# Altium schematic symbol library Other.SchLib: 179 symbols (part 2 of 11)
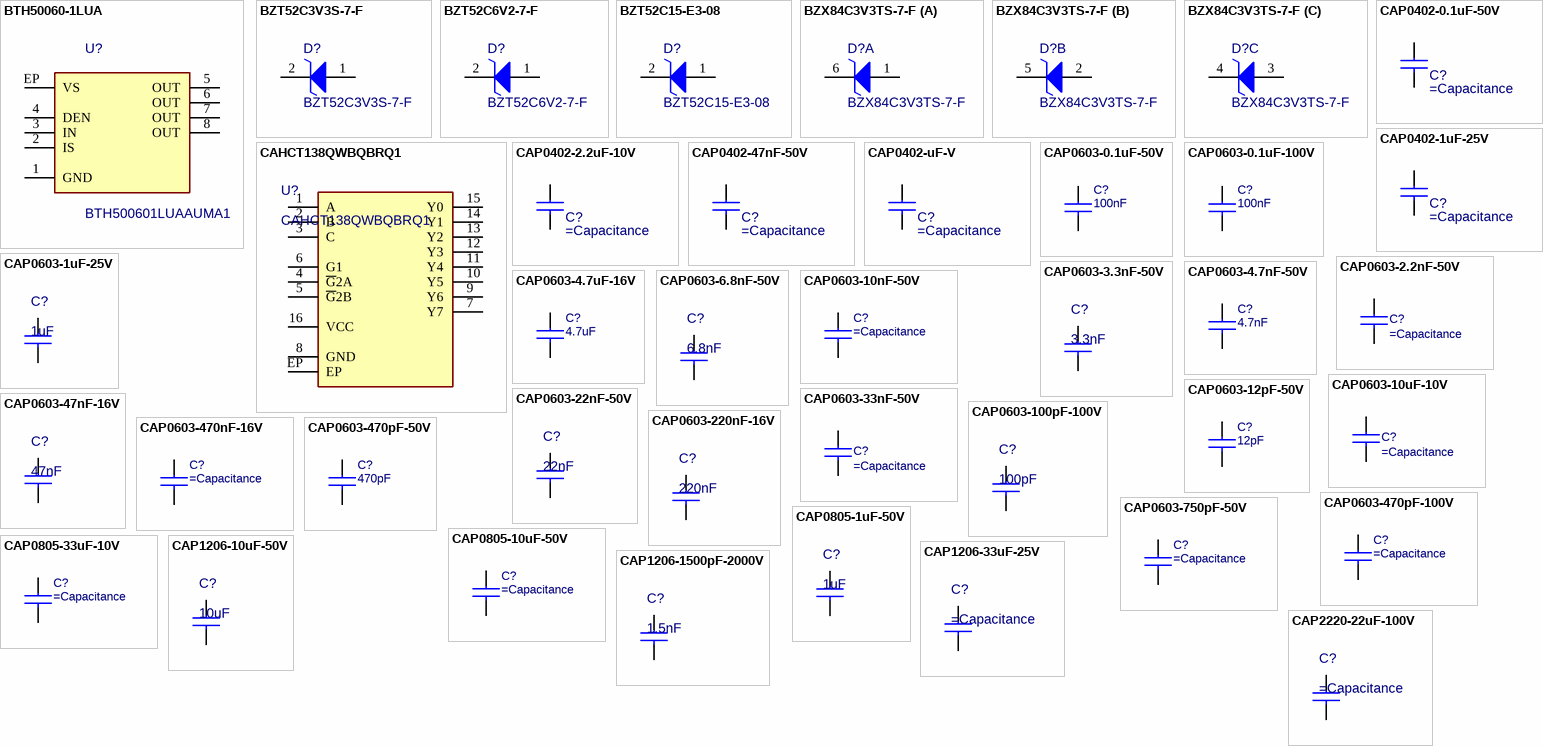
[diagram p9: symbols BTH50060-1LUA to CAP2220-22uF-100V]

## BZT52C6V2-7-F
designator D?
DIODE ZENER 6.2V 500MW SOD123; Manufacturer: Diodes Inc.; Element Configuration: Single; ESD Protection: No; Forward Current: 10mA; Forward Voltage: 900mV; Impedance: 10Ω; Max Junction Temperature (Tj): 150°C; Max Power Dissipation: 370mW; Max Reverse Leakage Current: 3µA; Number of Elements: 1; Output Current: 40mA; Polarity: Unidirectional; Reverse Standoff Voltage: 4V; Test Current: 5mA; Tolerance: 6%; Voltage Tolerance: 6.45%; Supplier: DigiKey; Supplier Part Number: BZT52C6V2-FDICT-ND; Manufacturer Part Number: BZT52C6V2-7-F; RoHS: Compliant; Category: Zener Diodes; Stock: 127496; Pricing: 1=0,12, 10=0,085, 100=0,041, 500=0,04, 1000=0,039 (USD); China RoHS: Compliant; Contact Plating: Tin; Height: 1.45mm; Lead Free: Lead Free; Length: 2.85mm; Lifecycle Status: Production; Max Operating Temperature: 150°C; Min Operating Temperature: -65°C; Mounting Technology: Surface Mount; Pins: 2; Number of Terminals: 2; Packaging: Cut Tape; Peak Reverse Current: 3µA; Power Dissipation: 370mW; Power Rating: 500mW; Radiation Hardening: No; REACH SVHC: Yes; Reference Voltage: 6.2V; Reverse Voltage: 4V; Schedule B: 8541100050, 8541100050|8541100050|8541100050|8541100050|8541100050|8541100050|8541100050|8541100050|8541100050|8541100050|8541100050|8541100050|8541100050|8541100050|8541100050|8541100050|8541100050|8541100050|8541100050|8541100050|8541100050|8541100050, 8541100050|8541100050|8541100050|8541100050|8541100050|8541100050|8541100050|8541100050|8541100050|8541100050|8541100050|8541100050|8541100050|8541100050|8541100050|8541100050|8541100050|8541100050|8541100050|8541100050|8541100050|8541100050|8541100050, 8541100050|8541100050|8541100050|8541100050|8541100050|8541100050|8541100050|8541100050|8541100050|8541100050|8541100050|8541100050|8541100050|8541100050|8541100050|8541100050|8541100050|8541100050|8541100050|8541100050|8541100050|8541100050|8541100050|85; Termination: SMD/SMT; Voltage Rating (DC): 6.2V; Weight: 10.007382mg; Width: 1.7mm; Working Voltage: 6.2V; Zener Current: 5mA; Zener Voltage: 6.2V; ComponentLink1URL: https://datasheet.octopart.com:443/BZT52C6V2-7-F-Diodes-Inc.-datasheet-101585693.pdf?src-supplier=IHS; ComponentLink1Description: https://datasheet.octopart.com:443/BZT52C6V2-7-F-Diodes-Inc.-datasheet-101585693.pdf?src-supplier=IHS; ComponentLink2URL: https://sigma.octopart.com:443/138895985/technical_drawing/Diodes-Inc.-BZT52C6V2-7-F.pdf?src-supplier=Diodes+Inc+SCT; ComponentLink2Description: https://sigma.octopart.com:443/138895985/technical_drawing/Diodes-Inc.-BZT52C6V2-7-F.pdf?src-supplier=Diodes+Inc+SCT; ComponentLink3URL: https://datasheet.octopart.com:443/BZT52C6V2-7-F-Diodes-Inc.-datasheet-12513818.pdf?src-supplier=TME; ComponentLink3Description: https://datasheet.octopart.com:443/BZT52C6V2-7-F-Diodes-Inc.-datasheet-12513818.pdf?src-supplier=TME; ComponentLink4URL: https://datasheet.octopart.com/BZT52C6V2-7-F-Diodes-Inc.-datasheet-10839781.pdf; ComponentLink4Description: https://datasheet.octopart.com/BZT52C6V2-7-F-Diodes-Inc.-datasheet-10839781.pdf; ComponentLink5URL: https://datasheet.octopart.com/BZT52C6V2-7-F-Diodes-Inc.-datasheet-10941054.pdf; ComponentLink5Description: https://datasheet.octopart.com/BZT52C6V2-7-F-Diodes-Inc.-datasheet-10941054.pdf; ComponentLink6URL: https://datasheet.octopart.com/BZT52C6V2-7-F-Diodes-Inc.-datasheet-10405015.pdf; ComponentLink6Description: https://datasheet.octopart.com/BZT52C6V2-7-F-Diodes-Inc.-datasheet-10405015.pdf; ComponentLink7URL: https://datasheet.octopart.com/BZT52C6V2-7-F-Diodes-Inc.-datasheet-5318325.pdf; ComponentLink7Description: https://datasheet.octopart.com/BZT52C6V2-7-F-Diodes-Inc.-datasheet-5318325.pdf; ComponentLink8URL: https://datasheet.octopart.com:443/BZT52C6V2-7-F-Diodes-Inc.-datasheet-14050928.pdf?src-supplier=iiiC; ComponentLink8Description: https://datasheet.octopart.com:443/BZT52C6V2-7-F-Diodes-Inc.-datasheet-14050928.pdf?src-supplier=iiiC; ComponentLink9URL: https://datasheet.octopart.com:443/BZT52C6V2-7-F-Diodes-Inc.-datasheet-123517.pdf?src-supplier=DigiKey; ComponentLink9Description: https://datasheet.octopart.com:443/BZT52C6V2-7-F-Diodes-Inc.-datasheet-123517.pdf?src-supplier=DigiKey; ComponentLink10URL: https://datasheet.octopart.com:443/BZT52C6V2-7-F-Diodes-Inc.-datasheet-1309.pdf?src-supplier=Mouser; ComponentLink10Description: https://datasheet.octopart.com:443/BZT52C6V2-7-F-Diodes-Inc.-datasheet-1309.pdf?src-supplier=Mouser; ComponentLink11URL: http://sigma.octopart.com:80/15616906/materials_sheet/Diodes-Inc.-BZT52C6V2-7-F.pdf?src-supplier=Compliance+Statements; ComponentLink11Description: http://sigma.octopart.com:80/15616906/materials_sheet/Diodes-Inc.-BZT52C6V2-7-F.pdf?src-supplier=Compliance+Statements; Supplier 1: DigiKey; Supplier Part Number 1: BZT52C6V2-FDICT-ND
footprint SOD-123 (SOD, 2-Leads, Body 2.69x1.6mm)
pins: 1, 2

## BZT52C15-E3-08
designator D?
DIODE ZENER 15V 410MW SOD123; Manufacturer: Vishay; Supplier: Digikey; Supplier Part Number: BZT52C15-E3-08GICT-ND; Manufacturer Part Number: BZT52C15-E3-08; RoHS: Yes; Category: Zener Diodes; Stock: 18922; Pricing: 1=0,15, 10=0,104, 100=0,047, 500=0,0465, 1000=0,046 (USD); ComponentLink1URL: http://www.mouser.com/ds/2/427/bzt52-106265.pdf?src-supplier=Mouser; ComponentLink1Description: http://www.mouser.com/ds/2/427/bzt52-106265.pdf?src-supplier=Mouser; ComponentLink2URL: http://www.farnell.com/datasheets/2046168.pdf?src-supplier=Farnell; ComponentLink2Description: http://www.farnell.com/datasheets/2046168.pdf?src-supplier=Farnell; ComponentLink3URL: http://www.vishay.com/docs/85760/bzt52.pdf?src-supplier=Digikey; ComponentLink3Description: http://www.vishay.com/docs/85760/bzt52.pdf?src-supplier=Digikey; ComponentLink4URL: https://www.vishay.com/docs/85760/bzt52.pdf?src-supplier=Digikey; ComponentLink4Description: https://www.vishay.com/docs/85760/bzt52.pdf?src-supplier=Digikey; ComponentLink5URL: http://www.vishay.com/docs/85760/bzt52.pdf?src-supplier=Avnet; ComponentLink5Description: http://www.vishay.com/docs/85760/bzt52.pdf?src-supplier=Avnet; ComponentLink6URL: http://www.farnell.com/datasheets/2046168.pdf?src-supplier=Element14; ComponentLink6Description: http://www.farnell.com/datasheets/2046168.pdf?src-supplier=Element14; ComponentLink7URL: https://datasheet.octopart.com/BZT52C15-E3-08-Vishay-datasheet-32036674.pdf?src-supplier=Newark; ComponentLink7Description: https://datasheet.octopart.com/BZT52C15-E3-08-Vishay-datasheet-32036674.pdf?src-supplier=Newark; ComponentLink8URL: http://www.farnell.com/datasheets/1852933.pdf?src-supplier=Newark; ComponentLink8Description: http://www.farnell.com/datasheets/1852933.pdf?src-supplier=Newark; Supplier 1: Digikey; Supplier Part Number 1: BZT52C15-E3-08GICT-ND
footprint SOD-123 (SOD, 2-Leads, Body 2.69x1.6mm)
pins: 1, 2

## BZX84C3V3TS-7-F
designator D?
DIODE ZENER ARRAY 3.3V SOT-363; Manufacturer: Diodes Inc.; ESD Protection: No; Forward Voltage: 900mV; Impedance: 95Ω; Max Power Dissipation: 200mW; Max Reverse Leakage Current: 5µA; Number of Elements: 3; Polarity: Unidirectional; Reverse Standoff Voltage: 1V; Test Current: 5mA; Tolerance: 6%; Voltage Tolerance: 6.06%; Supplier 1: DigiKey; Supplier Part Number 1: 31-BZX84C3V3TS-7-FCT-ND; Supplier: DigiKey; Supplier Part Number: 31-BZX84C3V3TS-7-FCT-ND; Manufacturer Part Number: BZX84C3V3TS-7-F; RoHS: Compliant; Category: Zener Diodes; Stock: 2827; Pricing: 1=0,31, 10=0,213, 100=0,099 (USD); Case/Package: SOT-363; China RoHS: Compliant; Contact Plating: Tin; Height: 1mm; Length: 2.2mm; Lifecycle Status: Production; Max Operating Temperature: 150°C; Min Operating Temperature: -65°C; Mounting Technology: Surface Mount; Pins: 6; Number of Terminals: 6; Packaging: Tape & Reel; Peak Reverse Current: 5µA; Power Dissipation: 200mW; Power Rating: 200mW; REACH SVHC: Yes; Reference Voltage: 3.3V; Weight: 6.010099mg; Width: 2.2mm; Zener Current: 5mA; Zener Voltage: 3.3V; ComponentLink1URL: https://datasheet.octopart.com:443/BZX84C3V3TS-7-F-Diodes-Inc.-datasheet-160640132.pdf?src-supplier=IHS; ComponentLink1Description: https://datasheet.octopart.com:443/BZX84C3V3TS-7-F-Diodes-Inc.-datasheet-160640132.pdf?src-supplier=IHS; ComponentLink2URL: https://datasheet.octopart.com:443/BZX84C3V3TS-7-F-Diodes-Inc.-datasheet-11551317.pdf?src-supplier=Diodes+Inc+SCT; ComponentLink2Description: https://datasheet.octopart.com:443/BZX84C3V3TS-7-F-Diodes-Inc.-datasheet-11551317.pdf?src-supplier=Diodes+Inc+SCT; ComponentLink3URL: https://sigma.octopart.com:443/138865995/technical_drawing/Diodes-Inc.-BZX84C3V3TS-7-F.pdf?src-supplier=Diodes+Inc+SCT; ComponentLink3Description: https://sigma.octopart.com:443/138865995/technical_drawing/Diodes-Inc.-BZX84C3V3TS-7-F.pdf?src-supplier=Diodes+Inc+SCT; ComponentLink4URL: http://sigma.octopart.com:80/15616913/materials_sheet/Diodes-Inc.-BZX84C3V3TS-7-F.pdf?src-supplier=Compliance+Statements; ComponentLink4Description: http://sigma.octopart.com:80/15616913/materials_sheet/Diodes-Inc.-BZX84C3V3TS-7-F.pdf?src-supplier=Compliance+Statements
footprint SOT-363 (6 pin, 2x2.1mm)
part A pins: 1 A1, 6 C1
part B pins: 2 A2, 5 C2
part C pins: 3 A3, 4 C3

## CAHCT138QWBQBRQ1
designator U?
IC DECODER/DEMUX 1 X 3:8 16-WQFN; Manufacturer: Texas Instruments; Manufacturer Lifecycle Status: ACTIVE; Supplier: DigiKey; Supplier Part Number: 296-CAHCT138QWBQBRQ1CT-ND; Manufacturer Part Number: CAHCT138QWBQBRQ1; RoHS: Compliant; Category: Integrated Circuits (ICs); Stock: 3000; Pricing: 1=0,69, 10=0,487, 25=0,4376, 100=0,3825, 250=0,35636, 500=0,34058, 1000=0,33507 (USD); Height: 800µm; Length: 3.5mm; Lifecycle Status: Production; Pins: 16; Thickness: 750µm; Width: 2.5mm; ComponentLink1URL: https://octopart.com:443/opatz8j6/c1?t=r6BgkDD2WvoZYG5zPlB5wptxFH1z3sMkWAPi6IDko2PPEjSprLkwyQ4igQPYPFzfGptLnWxKtMcIaCqGgOl4BgX5viiyAP9gIO-2FsIDF_F20-XqV5MqDYnQg0ZA-Ez0fKtFFSRjvUNH6ZkhuLtDXSiLnU1KOJa2uVgXvkRYmS_8bYr_2UeHUU2Ois_2qoP4CquEYZXzafViAlsb4iAhbViNC3nDIavQt9RHiwqb8esSdwmFnfSP1bWyWEgRkTtuPX5uAVDRKX79969s8VjnJE7Gy2dejHqTRMZDFGPeJ9QXpCSTi5jST_yXKOAbofRGJKOkP2d-a-zfoggpYesXviIOd-Zn-aSlwCIVhHEclKGalV1a1nYA4levSNwJTnUFHK1Fkb3yB3BHGlNEmlU&src-supplier=Texas+Instruments; ComponentLink1Description: https://octopart.com:443/opatz8j6/c1?t=r6BgkDD2WvoZYG5zPlB5wptxFH1z3sMkWAPi6IDko2PPEjSprLkwyQ4igQPYPFzfGptLnWxKtMcIaCqGgOl4BgX5viiyAP9gIO-2FsIDF_F20-XqV5MqDYnQg0ZA-Ez0fKtFFSRjvUNH6ZkhuLtDXSiLnU1KOJa2uVgXvkRYmS_8bYr_2UeHUU2Ois_2qoP4CquEYZXzafViAlsb4iAhbViNC3nDIavQt9RHiwqb8esSdwmFnfSP1bWyWEgRkTtuPX5uAVDRKX79969s8VjnJE7Gy2dejHqTRMZDFGPeJ9QXpCSTi5jST_yXKOAbofRGJKOkP2d-a-zfoggpYesXviIOd-Zn-aSlwCIVhHEclKGalV1a1nYA4levSNwJTnUFHK1Fkb3yB3BHGlNEmlU&src-supplier=Texas+Instruments; ComponentLink2URL: http://sigma.octopart.com:80/conflict_mineral_statement/Texas-Instruments-company-63.pdf?src-supplier=Compliance+Statements; ComponentLink2Description: http://sigma.octopart.com:80/conflict_mineral_statement/Texas-Instruments-company-63.pdf?src-supplier=Compliance+Statements; ComponentLink3URL: http://sigma.octopart.com:80/reach_statement/Texas-Instruments-company-64.pdf?src-supplier=Compliance+Statements; ComponentLink3Description: http://sigma.octopart.com:80/reach_statement/Texas-Instruments-company-64.pdf?src-supplier=Compliance+Statements; Supplier 1: DigiKey; Supplier Part Number 1: 296-CAHCT138QWBQBRQ1CT-ND
footprint WQFN-16 (WQFN - 3.5x0.5mm)
pins: 1 A, 2 B, 3 C, 4 ~{G}2A, 5 ~{G}2B, 6 G1, 7 Y7, 8 GND, 9 Y6, 10 Y5, 11 Y4, 12 Y3, 13 Y2, 14 Y1, 15 Y0, 16 VCC, EP

## CAP0402-0.1uF-50V
designator C?
CAP CER 0.1UF 50V X7R 0402; Manufacturer: Walsin Technologies; Manufacturer Part Number: 0402B104K500CT; Capacitance: 100nF; Material: 4241ConductorMaterial; Value: 100nF; Tolerance: 10%; Dielectric: 1511DielectricType; Supplier: Digikey; Supplier Part Number: 1292-1176-1-ND; RoHS: Yes; Category: Ceramic Capacitors; Stock: 109567; Pricing: 1=0,08, 10=0,005, 100=0,0032, 1000=0,0024 (USD); Mounting Technology: Surface Mount; Case/Package: 0402; Case Code (Imperial): 0402; Case Code (Metric): 1005; Min Operating Temperature: -55°C; Max Operating Temperature: 125°C; Packaging: Cut Tape; Voltage Rating: 50V; Series: -; Voltage Rating (DC): 50V; Height: 550um; RoHS Compliant: Yes; Lead Free: 5697LeadFree; ComponentLink1URL: http://datasheet.octopart.com/0402B104K500CT-Walsin-Technologies-datasheet-26371553.pdf?src-supplier=Arrow+Electronics; ComponentLink1Description: http://datasheet.octopart.com/0402B104K500CT-Walsin-Technologies-datasheet-26371553.pdf?src-supplier=Arrow+Electronics; ComponentLink2URL: http://datasheet.octopart.com/0402B104K500CT-Walsin-Technologies-datasheet-26371553.pdf?src-supplier=Verical; ComponentLink2Description: http://datasheet.octopart.com/0402B104K500CT-Walsin-Technologies-datasheet-26371553.pdf?src-supplier=Verical; ComponentLink3URL: http://www.passivecomponent.com/indexsea/0402B104K500CT-IE.pdf?src-supplier=Digikey; ComponentLink3Description: http://www.passivecomponent.com/indexsea/0402B104K500CT-IE.pdf?src-supplier=Digikey; ComponentLink4URL: http://datasheet.octopart.com/0402B104K500CT-Walsin-Technologies-datasheet-26371553.pdf?src-supplier=Rs; ComponentLink4Description: http://datasheet.octopart.com/0402B104K500CT-Walsin-Technologies-datasheet-26371553.pdf?src-supplier=Rs; ComponentLink5URL: https://datasheet.octopart.com/0402B104K500CT-Walsin-Technologies-datasheet-128065749.pdf?src-supplier=Future+Electronics; ComponentLink5Description: https://datasheet.octopart.com/0402B104K500CT-Walsin-Technologies-datasheet-128065749.pdf?src-supplier=Future+Electronics; ComponentLink6URL: http://datasheet.octopart.com/0402B104K500CT-Walsin-Technologies-datasheet-26371553.pdf?src-supplier=Farnell; ComponentLink6Description: http://datasheet.octopart.com/0402B104K500CT-Walsin-Technologies-datasheet-26371553.pdf?src-supplier=Farnell; ComponentLink7URL: http://datasheet.octopart.com/0402B104K500CT-Walsin-Technologies-datasheet-26371553.pdf?src-supplier=Newark; ComponentLink7Description: http://datasheet.octopart.com/0402B104K500CT-Walsin-Technologies-datasheet-26371553.pdf?src-supplier=Newark; ComponentLink8URL: http://datasheet.octopart.com/0402B104K500CT-Walsin-Technologies-datasheet-26371553.pdf?src-supplier=Mouser; ComponentLink8Description: http://datasheet.octopart.com/0402B104K500CT-Walsin-Technologies-datasheet-26371553.pdf?src-supplier=Mouser; ComponentLink9URL: http://datasheet.octopart.com/0402B104K500CT-Walsin-Technologies-datasheet-26371553.pdf?src-supplier=Digikey; ComponentLink9Description: http://datasheet.octopart.com/0402B104K500CT-Walsin-Technologies-datasheet-26371553.pdf?src-supplier=Digikey; ComponentLink10URL: https://datasheet.octopart.com/0402B104K500CT-Walsin-Technologies-datasheet-62066062.pdf?src-supplier=TME; ComponentLink10Description: https://datasheet.octopart.com/0402B104K500CT-Walsin-Technologies-datasheet-62066062.pdf?src-supplier=TME; ComponentLink11URL: http://datasheet.octopart.com/0402B104K500CT-Walsin-Technologies-datasheet-26371553.pdf?src-supplier=Freelance+Electronics; ComponentLink11Description: http://datasheet.octopart.com/0402B104K500CT-Walsin-Technologies-datasheet-26371553.pdf?src-supplier=Freelance+Electronics; ComponentLink12URL: http://datasheet.octopart.com/0402B104K500CT-Walsin-Technologies-datasheet-26371553.pdf?src-supplier=Component+Sense; ComponentLink12Description: http://datasheet.octopart.com/0402B104K500CT-Walsin-Technologies-datasheet-26371553.pdf?src-supplier=Component+Sense; ComponentLink13URL: http://datasheet.octopart.com/0402B104K500CT-Walsin-Technologies-datasheet-26371553.pdf?src-supplier=NAC+Semi; ComponentLink13Description: http://datasheet.octopart.com/0402B104K500CT-Walsin-Technologies-datasheet-26371553.pdf?src-supplier=NAC+Semi; ComponentLink14URL: https://datasheet.octopart.com/0402B104K500CT-Walsin-Technologies-datasheet-136037192.pdf?src-supplier=TECHDesign; ComponentLink14Description: https://datasheet.octopart.com/0402B104K500CT-Walsin-Technologies-datasheet-136037192.pdf?src-supplier=TECHDesign; Supplier 1: Digikey; Supplier Part Number 1: 1292-1176-1-ND
footprint C0402 (Chip Capacitor, 2-Leads, Body 1.00x0.50mm, IPC Medium Density)
pins: 1, 2

## CAP0402-1uF-25V
designator C?
Multilayer Ceramic Capacitors MLCC - SMD/SMT 0402 1uF 25volts *Derate Voltage/Temp; Manufacturer: Murata; Manufacturer Part Number: GRM155C81E105KE11J; Manufacturer Lifecycle Status: IN PRODUCTION; Capacitance: 1µF; Value: 1µF; Dielectric: X6S; Tolerance: 10%; Voltage Rating: 25V; Supplier 1: DigiKey; Supplier Part Number 1: 490-GRM155C81E105KE11JCT-ND; Supplier: DigiKey; Supplier Part Number: 490-GRM155C81E105KE11JCT-ND; RoHS: Compliant; Category: Ceramic Capacitors; Stock: 78531; Pricing: 1=0,1, 10=0,043, 50=0,0294, 100=0,0253, 500=0,01832, 1000=0,01619, 2500=0,01394, 5000=0,01258 (USD); Case/Package: 0402; Case Code (Imperial): 0402; Case Code (Metric): 1005; Dielectric Material: Ceramic; Height: 500µm; Length: 1mm; Lifecycle Status: Production; Material: Ceramic; Max Operating Temperature: 105°C; Min Operating Temperature: -55°C; Mounting Technology: Surface Mount; Number of Terminals: 2; Packaging: Tape & Reel (TR); REACH SVHC: Yes; Termination: SMD/SMT; Thickness: 500µm; Voltage Rating (DC): 25V; Weight: 6.010099mg; Width: 500µm; ComponentLink1URL: https://datasheet.octopart.com:443/GRM155C81E105KE11J-Murata-datasheet-165579666.pdf?src-supplier=TME; ComponentLink1Description: https://datasheet.octopart.com:443/GRM155C81E105KE11J-Murata-datasheet-165579666.pdf?src-supplier=TME; ComponentLink2URL: https://datasheet.octopart.com:443/GRM155C81E105KE11J-Murata-datasheet-141266224.pdf?src-supplier=Ciiva; ComponentLink2Description: https://datasheet.octopart.com:443/GRM155C81E105KE11J-Murata-datasheet-141266224.pdf?src-supplier=Ciiva; ComponentLink3URL: https://datasheet.octopart.com:443/GRM155C81E105KE11J-Murata-datasheet-140688500.pdf?src-supplier=Ciiva; ComponentLink3Description: https://datasheet.octopart.com:443/GRM155C81E105KE11J-Murata-datasheet-140688500.pdf?src-supplier=Ciiva; ComponentLink4URL: https://datasheet.octopart.com:443/GRM155C81E105KE11J-Murata-datasheet-138740527.pdf?src-supplier=Ciiva; ComponentLink4Description: https://datasheet.octopart.com:443/GRM155C81E105KE11J-Murata-datasheet-138740527.pdf?src-supplier=Ciiva; ComponentLink5URL: https://datasheet.octopart.com:443/GRM155C81E105KE11J-Murata-datasheet-149522958.pdf?src-supplier=Farnell; ComponentLink5Description: https://datasheet.octopart.com:443/GRM155C81E105KE11J-Murata-datasheet-149522958.pdf?src-supplier=Farnell; ComponentLink6URL: https://datasheet.octopart.com/GRM155C81E105KE11J-Murata-datasheet-12515295.pdf; ComponentLink6Description: https://datasheet.octopart.com/GRM155C81E105KE11J-Murata-datasheet-12515295.pdf; ComponentLink7URL: https://datasheet.octopart.com/GRM155C81E105KE11J-Murata-datasheet-12510076.pdf; ComponentLink7Description: https://datasheet.octopart.com/GRM155C81E105KE11J-Murata-datasheet-12510076.pdf; ComponentLink8URL: https://datasheet.octopart.com/GRM155C81E105KE11J-Murata-datasheet-11978611.pdf; ComponentLink8Description: https://datasheet.octopart.com/GRM155C81E105KE11J-Murata-datasheet-11978611.pdf; ComponentLink9URL: https://datasheet.octopart.com/GRM155C81E105KE11J-Murata-datasheet-10025737.pdf; ComponentLink9Description: https://datasheet.octopart.com/GRM155C81E105KE11J-Murata-datasheet-10025737.pdf; ComponentLink10URL: https://datasheet.octopart.com/GRM155C81E105KE11J-Murata-datasheet-8819587.pdf; ComponentLink10Description: https://datasheet.octopart.com/GRM155C81E105KE11J-Murata-datasheet-8819587.pdf; ComponentLink11URL: https://datasheet.octopart.com/GRM155C81E105KE11J-Murata-datasheet-38882740.pdf; ComponentLink11Description: https://datasheet.octopart.com/GRM155C81E105KE11J-Murata-datasheet-38882740.pdf; ComponentLink12URL: http://sigma.octopart.com:80/reach_statement/Murata-company-16.pdf?src-supplier=Compliance+Statements; ComponentLink12Description: http://sigma.octopart.com:80/reach_statement/Murata-company-16.pdf?src-supplier=Compliance+Statements
footprint C0402 (Chip Capacitor, 2-Leads, Body 1.00x0.50mm, IPC Medium Density)
pins: 1, 2

## CAP0402-2.2uF-10V
designator C?
Ceramic Capacitor, Ceramic, 16V, 20% +Tol, 20% -Tol, X5R, 15% TC, 2.2uF, Surface Mount, 0402; Manufacturer: Yageo Group; Manufacturer Part Number: CC0402MRX5R7BB225; Capacitance: 2.2µF; Value: 2.2µF; Temperature Coefficient: 30ppm/°C; Supplier 1: DigiKey; Supplier Part Number 1: 311-3481-1-ND; Supplier: DigiKey; Supplier Part Number: 311-3481-1-ND; RoHS: Compliant; Category: Ceramic Capacitors; Stock: 818; Pricing: 1=0,15, 10=0,086, 50=0,0604, 100=0,0525, 500=0,03696, 1000=0,03522, 2500=0,03125, 5000=0,02892 (USD); Case/Package: 0402; China RoHS: Compliant; Dielectric: X5R; Dielectric Material: Ceramic; Halogen Free: Halogen Free; Height: 500µm; Lead Free: Lead Free; Length: 1mm; Lifecycle Status: Production; Material: Ceramic; Max Operating Temperature: 85°C; Min Operating Temperature: -55°C; Mounting Technology: Surface Mount; Number of Terminals: 2; REACH SVHC: Yes; Voltage Rating: 16V; Voltage Rating (DC): 16V; Width: 500µm; ComponentLink1URL: https://datasheet.octopart.com:443/CC0402MRX5R7BB225-Yageo-datasheet-170350636.pdf?src-supplier=IHS; ComponentLink1Description: https://datasheet.octopart.com:443/CC0402MRX5R7BB225-Yageo-datasheet-170350636.pdf?src-supplier=IHS; ComponentLink2URL: https://datasheet.octopart.com:443/CC0402MRX5R7BB225-Yageo-datasheet-78855684.pdf?src-supplier=Upverter; ComponentLink2Description: https://datasheet.octopart.com:443/CC0402MRX5R7BB225-Yageo-datasheet-78855684.pdf?src-supplier=Upverter; ComponentLink3URL: https://datasheet.octopart.com:443/CC0402MRX5R7BB225-Yageo-datasheet-182029488.pdf?src-supplier=Farnell; ComponentLink3Description: https://datasheet.octopart.com:443/CC0402MRX5R7BB225-Yageo-datasheet-182029488.pdf?src-supplier=Farnell; ComponentLink4URL: https://datasheet.octopart.com/CC0402MRX5R7BB225-Yageo-datasheet-86397281.pdf; ComponentLink4Description: https://datasheet.octopart.com/CC0402MRX5R7BB225-Yageo-datasheet-86397281.pdf; ComponentLink5URL: http://sigma.octopart.com:80/rohs_statement/Yageo-company-2.pdf?src-supplier=Compliance+Statements; ComponentLink5Description: http://sigma.octopart.com:80/rohs_statement/Yageo-company-2.pdf?src-supplier=Compliance+Statements; ComponentLink6URL: http://sigma.octopart.com:80/conflict_mineral_statement/Yageo-company-3.pdf?src-supplier=Compliance+Statements; ComponentLink6Description: http://sigma.octopart.com:80/conflict_mineral_statement/Yageo-company-3.pdf?src-supplier=Compliance+Statements
footprint C0402 (Chip Capacitor, 2-Leads, Body 1.00x0.50mm, IPC Medium Density)
pins: 1, 2

## CAP0402-47nF-50V
designator C?
Multilayer Ceramic Capacitors MLCC - SMD/SMT 50V 0.047uF X7R 0402 10%; Manufacturer: Yageo Group; Manufacturer Part Number: CC0402KRX7R9BB473; Capacitance: 47nF; Value: 47nF; Temperature Coefficient: 30ppm/°C; Supplier 1: DigiKey; Supplier Part Number 1: 311-3815-1-ND; Supplier: DigiKey; Supplier Part Number: 311-3815-1-ND; RoHS: Compliant; Category: Ceramic Capacitors; Stock: 2929; Pricing: 1=0,1, 10=0,039, 50=0,0268, 100=0,0229, 500=0,01654, 1000=0,01457, 2500=0,0125, 5000=0,01126 (USD); Case/Package: 0402; China RoHS: Compliant; Dielectric: X7R; Dielectric Material: Ceramic; Halogen Free: Halogen Free; Height: 500µm; Lead Free: Lead Free; Length: 1mm; Lifecycle Status: Production; Material: Ceramic; Max Operating Temperature: 125°C; Min Operating Temperature: -55°C; Mounting Technology: Surface Mount; Number of Terminals: 2; REACH SVHC: Yes; Schedule B: 8532240020, 8532240020|8532240020|8532240020|8532240020|8532240020; Thickness: 558.8µm; Tolerance: 10%; Voltage Rating: 50V; Voltage Rating (DC): 50V; Width: 500µm; ComponentLink1URL: https://datasheet.octopart.com:443/CC0402KRX7R9BB473-Yageo-datasheet-177165144.pdf?src-supplier=IHS; ComponentLink1Description: https://datasheet.octopart.com:443/CC0402KRX7R9BB473-Yageo-datasheet-177165144.pdf?src-supplier=IHS; ComponentLink2URL: https://datasheet.octopart.com:443/CC0402KRX7R9BB473-Yageo-datasheet-78855684.pdf?src-supplier=Upverter; ComponentLink2Description: https://datasheet.octopart.com:443/CC0402KRX7R9BB473-Yageo-datasheet-78855684.pdf?src-supplier=Upverter; ComponentLink3URL: https://datasheet.octopart.com:443/CC0402KRX7R9BB473-Yageo-Group-datasheet-189192896.pdf?src-supplier=TME; ComponentLink3Description: https://datasheet.octopart.com:443/CC0402KRX7R9BB473-Yageo-Group-datasheet-189192896.pdf?src-supplier=TME; ComponentLink4URL: https://datasheet.octopart.com:443/CC0402KRX7R9BB473-Yageo-datasheet-181967502.pdf?src-supplier=Newark; ComponentLink4Description: https://datasheet.octopart.com:443/CC0402KRX7R9BB473-Yageo-datasheet-181967502.pdf?src-supplier=Newark; ComponentLink5URL: https://datasheet.octopart.com:443/CC0402KRX7R9BB473-Yageo-datasheet-181967501.pdf?src-supplier=Newark; ComponentLink5Description: https://datasheet.octopart.com:443/CC0402KRX7R9BB473-Yageo-datasheet-181967501.pdf?src-supplier=Newark; ComponentLink6URL: https://datasheet.octopart.com:443/CC0402KRX7R9BB473-Yageo-datasheet-140260305.pdf?src-supplier=Newark; ComponentLink6Description: https://datasheet.octopart.com:443/CC0402KRX7R9BB473-Yageo-datasheet-140260305.pdf?src-supplier=Newark; ComponentLink7URL: https://datasheet.octopart.com:443/CC0402KRX7R9BB473-Yageo-datasheet-147453679.pdf?src-supplier=Farnell; ComponentLink7Description: https://datasheet.octopart.com:443/CC0402KRX7R9BB473-Yageo-datasheet-147453679.pdf?src-supplier=Farnell; ComponentLink8URL: https://datasheet.octopart.com:443/CC0402KRX7R9BB473-Yageo-datasheet-166511530.pdf?src-supplier=Future+Electronics; ComponentLink8Description: https://datasheet.octopart.com:443/CC0402KRX7R9BB473-Yageo-datasheet-166511530.pdf?src-supplier=Future+Electronics; ComponentLink9URL: https://datasheet.octopart.com:443/CC0402KRX7R9BB473-Yageo-datasheet-137700082.pdf?src-supplier=Future+Electronics; ComponentLink9Description: https://datasheet.octopart.com:443/CC0402KRX7R9BB473-Yageo-datasheet-137700082.pdf?src-supplier=Future+Electronics; ComponentLink10URL: https://datasheet.octopart.com:443/CC0402KRX7R9BB473-Yageo-datasheet-137700084.pdf?src-supplier=Future+Electronics; ComponentLink10Description: https://datasheet.octopart.com:443/CC0402KRX7R9BB473-Yageo-datasheet-137700084.pdf?src-supplier=Future+Electronics; ComponentLink11URL: https://datasheet.octopart.com:443/CC0402KRX7R9BB473-Yageo-datasheet-82288757.pdf?src-supplier=Future+Electronics; ComponentLink11Description: https://datasheet.octopart.com:443/CC0402KRX7R9BB473-Yageo-datasheet-82288757.pdf?src-supplier=Future+Electronics; ComponentLink12URL: https://datasheet.octopart.com/Surface-Mount-Ceramic-Multilayer-Capacitors%3B-General-Purpose-%26-High-Capacitance-Class-2%2C-X7R-Yageo-datasheet-family-114.pdf; ComponentLink12Description: https://datasheet.octopart.com/Surface-Mount-Ceramic-Multilayer-Capacitors%3B-General-Purpose-%26-High-Capacitance-Class-2%2C-X7R-Yageo-datasheet-family-114.pdf; ComponentLink13URL: https://datasheet.octopart.com/CC0402KRX7R9BB473-Yageo-datasheet-10883670.pdf; ComponentLink13Description: https://datasheet.octopart.com/CC0402KRX7R9BB473-Yageo-datasheet-10883670.pdf; ComponentLink14URL: http://sigma.octopart.com:80/rohs_statement/Surface-Mount-Ceramic-Multilayer-Capacitors%3B-General-Purpose-%26-High-Capacitance-Class-2%2C-X7R-Yageo-family-124.pdf?src-supplier=Compliance+Statements; ComponentLink14Description: http://sigma.octopart.com:80/rohs_statement/Surface-Mount-Ceramic-Multilayer-Capacitors%3B-General-Purpose-%26-High-Capacitance-Class-2%2C-X7R-Yageo-family-124.pdf?src-supplier=Compliance+Statements; ComponentLink15URL: http://sigma.octopart.com:80/reach_statement/Surface-Mount-Ceramic-Multilayer-Capacitors%3B-General-Purpose-%26-High-Capacitance-Class-2%2C-X7R-Yageo-family-125.pdf?src-supplier=Compliance+Statements; ComponentLink15Description: http://sigma.octopart.com:80/reach_statement/Surface-Mount-Ceramic-Multilayer-Capacitors%3B-General-Purpose-%26-High-Capacitance-Class-2%2C-X7R-Yageo-family-125.pdf?src-supplier=Compliance+Statements; ComponentLink16URL: http://sigma.octopart.com:80/rohs_statement/Yageo-company-2.pdf?src-supplier=Compliance+Statements; ComponentLink16Description: http://sigma.octopart.com:80/rohs_statement/Yageo-company-2.pdf?src-supplier=Compliance+Statements; ComponentLink17URL: http://sigma.octopart.com:80/conflict_mineral_statement/Yageo-company-3.pdf?src-supplier=Compliance+Statements; ComponentLink17Description: http://sigma.octopart.com:80/conflict_mineral_statement/Yageo-company-3.pdf?src-supplier=Compliance+Statements
footprint C0402 (Chip Capacitor, 2-Leads, Body 1.00x0.50mm, IPC Medium Density)
pins: 1, 2

## CAP0402-uF-V
designator C?
CAP CER 0.1UF 50V X7R 0402; Capacitance: =Value
footprint C0402 (Chip Capacitor, 2-Leads, Body 1.00x0.50mm, IPC Medium Density)
pins: 1, 2

## CAP0603-0.1uF-50V
designator C?, comment 100nF
CAP CER 0.1UF 50V X7R 0603; Manufacturer: TDK; Manufacturer Part Number: CGA3E2X7R1H104K080AD; Tolerance: 10%; Capacitance: 100nF; Category: Capacitors; Supplier 1: Digi-Key; Supplier Part Number 1: 445-8846-1-ND; Stock 1: 0; Pricing 1: 1=0.18, 10=0.126, 100=0.0594, 500=0.04168, 1000=0.0345 (USD); Mount: Surface Mount; Case/Package: 0603; Weight: 7.1E-05oz; Case Code (Imperial): 0603; Case Code (Metric): 1608; Min Operating Temperature: -55°C; Max Operating Temperature: 125°C; Voltage Rating (DC): 50V; Packaging: Tape and Reel; Package Quantity: 4000; Voltage Rating: 50V; Dielectric: X7R; Termination: SMD/SMT; Composition: Ceramic; Length: 1.6mm; Height: 0.8mm; Width: 0.8mm; Thickness: 0.035inch; Depth: 0.8mm; ComponentLink1URL: https://datasheet.ciiva.com/24217/cga3e2x7r1h104k080ad-266045-24217490.pdf; ComponentLink1Description: https://datasheet.ciiva.com/24217/cga3e2x7r1h104k080ad-266045-24217490.pdf
footprint C0603 (Footprint not found)
pins: 1, 2

## CAP0603-0.1uF-100V
designator C?, comment 100nF
CAP CER 0.1UF 100V X7R 0603; Manufacturer: Yageo; Manufacturer Part Number: CC0603KRX7R0BB104; Material: 4241ConductorMaterial; Tolerance: 10%; Capacitance: 100nF; Supplier: Digikey; Supplier Part Number: 311-1523-1-ND; RoHS: Yes; Category: Ceramic Capacitors; Stock: 3495882; Pricing: 1=0,14, 10=0,079, 100=0,0484, 1000=0,0325 (USD); Mounting Technology: Surface Mount; Case/Package: 0603; Case Code (Metric): 1608; Case Code (Imperial): 0603; Weight: 7.1E-05oz; Min Operating Temperature: -55°C; Max Operating Temperature: 125°C; Value: 100nF; Voltage Rating: 100V; Packaging: Tape and Reel; Dielectric: X7R; Termination: SMD/SMT; Voltage Rating (DC): 100V; Package Quantity: 4000; Series: CC; Length: 0.063inch; Width: 0.031inch; Height: 900um; Thickness: 0.035inch; Lead Free: 5697LeadFree; RoHS Compliant: Yes; ComponentLink1URL: https://datasheet.ciiva.com/6277/mlccorderingcode-6277082.pdf?src-supplier=Digikey; ComponentLink1Description: https://datasheet.ciiva.com/6277/mlccorderingcode-6277082.pdf?src-supplier=Digikey; ComponentLink2URL: https://datasheet.ciiva.com/6277/mlccorderingcode-6277081.pdf?src-supplier=Digikey; ComponentLink2Description: https://datasheet.ciiva.com/6277/mlccorderingcode-6277081.pdf?src-supplier=Digikey; ComponentLink3URL: https://datasheet.ciiva.com/6277/mlccorderingcode-6277030.pdf?src-supplier=Digikey; ComponentLink3Description: https://datasheet.ciiva.com/6277/mlccorderingcode-6277030.pdf?src-supplier=Digikey; Supplier 1: Digikey; Supplier Part Number 1: 311-1523-1-ND
footprint C0603 (Footprint not found)
pins: 1, 2

## CAP0603-1uF-25V
designator C?, comment 1uF
CAP CER 1UF 25V X7R 0603; Manufacturer: Samsung; Manufacturer Part Number: CL10B105KA8NFNC; Tolerance: 10%; Supplier 1: Digi-Key; RoHS: Yes; Category: Ceramic Capacitors; Stock 1: 115486; Pricing 1: 1=0.10000, 10=0.04800, 50=0.02620, 100=0.02140, 500=0.01530, 1000=0.01202 (USD); Mount: Surface Mount; Case/Package: 0603; Case Code (Metric): 1608; Case Code (Imperial): 0603; Min Operating Temperature: -55°C; Max Operating Temperature: 125°C; Dielectric: X7R; Capacitance: 1uF; Package Quantity: 1; Packaging: Tape and Reel; Voltage Rating: 25V; Length: 0.063inch; Width: 0.031inch; Height: 0.8mm; Thickness: 0.035inch; Depth: 0.8mm; Radiation Hardening: No; Lead Free: Lead Free; ComponentLink1URL: https://datasheet.ciiva.com/25734/cl10b105ka8nfnc-25734069.pdf?src-supplier=Digi-Key; ComponentLink1Description: https://datasheet.ciiva.com/25734/cl10b105ka8nfnc-25734069.pdf?src-supplier=Digi-Key; Supplier Part Number 1: 1276-1942-1-ND
footprint C0603 (Chip Capacitor, 2-Leads, Body 1.75x0.95mm)
pins: 1, 2

## CAP0603-2.2nF-50V
designator C?
CAP CER 2200PF 50V X7R 0603; Manufacturer: Yageo; Manufacturer Part Number: CC0603KRX7R9BB222; Capacitance: 2.2nF; Material: 4241ConductorMaterial; Tolerance: 10%; Value: 2.2nF; Insulation Resistance: 10GR; Dissipation Factor: 2.5%; Supplier: Digikey; Supplier Part Number: 311-1081-1-ND; RoHS: Yes; Category: Ceramic Capacitors; Stock: 338167; Pricing: 1=0,1, 10=0,036, 100=0,021, 1000=0,01326 (USD); Mounting Technology: Surface Mount; Case/Package: 0603; Pins: 2; Case Code (Metric): 1608; Case Code (Imperial): 0603; Min Operating Temperature: -55°C; Max Operating Temperature: 125°C; Dielectric: X7R; Packaging: Tape and Reel; Voltage Rating (DC): 50V; Termination: SMD/SMT; Voltage Rating: 50V; Series: CC; Package Quantity: 1; Voltage: 50V; Voltage Rating (AC): 50V; Length: 1.6mm; Width: 0.031inch; Height: 0.8mm; Thickness: 0.035inch; Depth: 0.8mm; Radiation Hardening: No; RoHS Compliant: Yes; Lead Free: 5697LeadFree; Halogen Free: 5694HalogenFree; Reach SVHC Compliant: No; ComponentLink1URL: https://datasheet.ciiva.com/11788/0900766b8079c870-11788403.pdf?src-supplier=Rs; ComponentLink1Description: https://datasheet.ciiva.com/11788/0900766b8079c870-11788403.pdf?src-supplier=Rs; ComponentLink2URL: https://datasheet.ciiva.com/23768/1079489-23768004.pdf?src-supplier=Newark; ComponentLink2Description: https://datasheet.ciiva.com/23768/1079489-23768004.pdf?src-supplier=Newark; ComponentLink3URL: https://datasheet.ciiva.com/26862/getdatasheetpartid-403587-26862854.pdf?src-supplier=Verical; ComponentLink3Description: https://datasheet.ciiva.com/26862/getdatasheetpartid-403587-26862854.pdf?src-supplier=Verical; ComponentLink4URL: https://datasheet.ciiva.com/155/mlccorderingcode-155921.pdf?src-supplier=Digikey; ComponentLink4Description: https://datasheet.ciiva.com/155/mlccorderingcode-155921.pdf?src-supplier=Digikey; ComponentLink5URL: https://datasheet.ciiva.com/8033/70765-8033863.pdf?src-supplier=Element14; ComponentLink5Description: https://datasheet.ciiva.com/8033/70765-8033863.pdf?src-supplier=Element14; ComponentLink6URL: https://datasheet.ciiva.com/7978/1489800-7978172.pdf?src-supplier=Element14; ComponentLink6Description: https://datasheet.ciiva.com/7978/1489800-7978172.pdf?src-supplier=Element14; ComponentLink7URL: https://datasheet.ciiva.com/28450/1489800-28450632.pdf?src-supplier=Element14; ComponentLink7Description: https://datasheet.ciiva.com/28450/1489800-28450632.pdf?src-supplier=Element14; ComponentLink8URL: https://datasheet.ciiva.com/155/mlccorderingcode-155920.pdf?src-supplier=Digikey; ComponentLink8Description: https://datasheet.ciiva.com/155/mlccorderingcode-155920.pdf?src-supplier=Digikey; ComponentLink9URL: https://datasheet.ciiva.com/155/mlccorderingcode-155922.pdf?src-supplier=Digikey; ComponentLink9Description: https://datasheet.ciiva.com/155/mlccorderingcode-155922.pdf?src-supplier=Digikey; ComponentLink10URL: https://datasheet.ciiva.com/8033/1489800-8033864.pdf?src-supplier=Element14; ComponentLink10Description: https://datasheet.ciiva.com/8033/1489800-8033864.pdf?src-supplier=Element14; ComponentLink11URL: https://datasheet.ciiva.com/8033/1489800-8033862.pdf?src-supplier=Element14; ComponentLink11Description: https://datasheet.ciiva.com/8033/1489800-8033862.pdf?src-supplier=Element14; Supplier 1: Digikey; Supplier Part Number 1: 311-1081-1-ND
footprint C0603 (Footprint not found)
pins: 1, 2

## CAP0603-3.3nF-50V
designator C?, comment 3.3nF
CAP CER 3300PF 50V X7R 0603; Manufacturer: KEMET; Manufacturer Part Number: C0603C332J5RACTU; Dielectric Material: Ceramic; Tolerance: 5%; Dissipation Factor: 2.5%; RoHS: Yes; Category: Ceramic Capacitors; Stock 1: 29562; Pricing 1: 1=0.10000, 10=0.04800, 50=0.02620, 100=0.02140, 500=0.01530, 1000=0.01202 (USD); Mount: Surface Mount; Case/Package: 0603; Case Code (Metric): 1608; Case Code (Imperial): 0603; Min Operating Temperature: -55°C; Max Operating Temperature: 125°C; Capacitance: 3.3nF; Package Quantity: 1; Packaging: Tape and Reel; Voltage Rating: 50V; Voltage Rating (DC): 50V; Dielectric: X7R; Termination: SMD/SMT; Series: C; Construction: Flat; Length: 1.6mm; Width: 0.031inch; Height: 0.8mm; Thickness: 0.034inch; Lead Pitch: 0.7mm; Depth: 0.8mm; Radiation Hardening: No; REACH SVHC: No SVHC; RoHS Compliant: Yes; ComponentLink1URL: http://components.arrow.com/part/dataview/2627826S8993746N7429?src-supplier=Arrow+Electronics; ComponentLink1Description: http://components.arrow.com/part/dataview/2627826S8993746N7429?src-supplier=Arrow+Electronics; ComponentLink2URL: https://www.verical.com/server-webapp/html/getDatasheet?partID=385534&src-supplier=Verical; ComponentLink2Description: https://www.verical.com/server-webapp/html/getDatasheet?partID=385534&src-supplier=Verical; ComponentLink3URL: http://www.farnell.com/datasheets/2745899.pdf?src-supplier=Farnell; ComponentLink3Description: http://www.farnell.com/datasheets/2745899.pdf?src-supplier=Farnell; ComponentLink4URL: http://www.jameco.com/Jameco/Products/ProdDS/1637222.pdf?src-supplier=Jameco; ComponentLink4Description: http://www.jameco.com/Jameco/Products/ProdDS/1637222.pdf?src-supplier=Jameco; ComponentLink5URL: http://www.mouser.com/ds/2/212/KEM_C1002_X7R_SMD-1102033.pdf?src-supplier=Mouser; ComponentLink5Description: http://www.mouser.com/ds/2/212/KEM_C1002_X7R_SMD-1102033.pdf?src-supplier=Mouser; ComponentLink6URL: http://components.arrow.com/part/dataview/0323_00011113?src-supplier=Arrow+Europe; ComponentLink6Description: http://components.arrow.com/part/dataview/0323_00011113?src-supplier=Arrow+Europe; ComponentLink7URL: https://api.kemet.com/component-edge/download/datasheet/C0603C332J5RACTU.pdf?src-supplier=Digi-Key; ComponentLink7Description: https://api.kemet.com/component-edge/download/datasheet/C0603C332J5RACTU.pdf?src-supplier=Digi-Key; ComponentLink8URL: http://capacitoredge.kemet.com/capedge2/DataSheet?pn=C0603C332J5RACTU&src-supplier=Avnet+Europe; ComponentLink8Description: http://capacitoredge.kemet.com/capedge2/DataSheet?pn=C0603C332J5RACTU&src-supplier=Avnet+Europe; ComponentLink9URL: http://capacitoredge.kemet.com/capedge2/DataSheet?pn=C0603C332J5RACTU&src-supplier=Avnet; ComponentLink9Description: http://capacitoredge.kemet.com/capedge2/DataSheet?pn=C0603C332J5RACTU&src-supplier=Avnet; ComponentLink10URL: http://www.farnell.com/datasheets/2745899.pdf?src-supplier=Newark; ComponentLink10Description: http://www.farnell.com/datasheets/2745899.pdf?src-supplier=Newark; ComponentLink11URL: http://www.farnell.com/datasheets/2745899.pdf?src-supplier=Element14; ComponentLink11Description: http://www.farnell.com/datasheets/2745899.pdf?src-supplier=Element14; Supplier 1: DigiKey; Supplier Part Number 1: 399-C0603C332J5RACTUCT-ND
footprint C0603 (Chip Capacitor, 2-Leads, Body 1.75x0.95mm)
pins: 1, 2

## CAP0603-4.7nF-50V
designator C?, comment 4.7nF
CAP CER 4700PF 50V X7R 0603; Manufacturer: Walsin Technologies; Manufacturer Part Number: 0603B472M500CT; Tolerance: 20%; ComponentLink1URL: https://datasheet.ciiva.com/24217/cga3e2x7r1h104k080ad-266045-24217490.pdf; ComponentLink1Description: https://datasheet.ciiva.com/24217/cga3e2x7r1h104k080ad-266045-24217490.pdf; ComponentLink2URL: http://www.mouser.com/ds/2/281/c02e-2905.pdf?src-supplier=Mouser; ComponentLink2Description: http://www.mouser.com/ds/2/281/c02e-2905.pdf?src-supplier=Mouser; ComponentLink3URL: http://search.murata.co.jp/Ceramy/image/img/A01X/G101/ENG/GRM033R71H101MA12-01.pdf?src-supplier=Digi-Key; ComponentLink3Description: http://search.murata.co.jp/Ceramy/image/img/A01X/G101/ENG/GRM033R71H101MA12-01.pdf?src-supplier=Digi-Key; ComponentLink4URL: https://search.murata.co.jp/Ceramy/image/img/A01X/G101/ENG/GRM033R71H101MA12-01.pdf?src-supplier=Digi-Key; ComponentLink4Description: https://search.murata.co.jp/Ceramy/image/img/A01X/G101/ENG/GRM033R71H101MA12-01.pdf?src-supplier=Digi-Key; ComponentLink5URL: http://www.mouser.com/ds/2/212/KEM_C1003_C0G_SMD-1101588.pdf?src-supplier=Mouser; ComponentLink5Description: http://www.mouser.com/ds/2/212/KEM_C1003_C0G_SMD-1101588.pdf?src-supplier=Mouser; ComponentLink6URL: https://search.kemet.com/component-edge/download/datasheet/C0603C101M5GACTU.pdf?src-supplier=Digi-Key; ComponentLink6Description: https://search.kemet.com/component-edge/download/datasheet/C0603C101M5GACTU.pdf?src-supplier=Digi-Key; ComponentLink7URL: https://api.kemet.com/component-edge/download/datasheet/C0603C101M5GACTU.pdf?src-supplier=Digi-Key; ComponentLink7Description: https://api.kemet.com/component-edge/download/datasheet/C0603C101M5GACTU.pdf?src-supplier=Digi-Key; ComponentLink8URL: http://components.arrow.com/part/dataview/0323_00656347?src-supplier=Arrow+Europe; ComponentLink8Description: http://components.arrow.com/part/dataview/0323_00656347?src-supplier=Arrow+Europe; Supplier 1: Digi-Key; RoHS: Yes; Category: Uncategorized; Stock 1: 35240; Pricing 1: 1=0,10000, 10=0,03000, 100=0,01340, 500=0,00954, 1000=0,00750 (USD); Case/Package: 0603; Min Operating Temperature: -55°C; Max Operating Temperature: 125°C; Dielectric: X7R; Packaging: Tape and Reel; Capacitance: 4.7nF; Length: 1.6mm; Depth: 0.8mm; ComponentLink9URL: http://components.arrow.com/part/dataview/0323_00656892?src-supplier=Arrow+Europe; ComponentLink9Description: http://components.arrow.com/part/dataview/0323_00656892?src-supplier=Arrow+Europe; Supplier Part Number 1: 1292-1444-1-ND
footprint C0603 (Chip Capacitor, 2-Leads, Body 1.75x0.95mm)
pins: 1, 2

## CAP0603-4.7uF-16V
designator C?, comment 4.7uF
CAP CER 4.7UF 6.3V Y5V 0603; Manufacturer: Yageo; Manufacturer Part Number: CC0603ZRY5V5BB475; Dielectric Material: 4241ConductorMaterial; Capacitance: 4.7uF; Supplier: Farnell; Supplier Part Number: 9402128; RoHS: Yes; Category: Ceramic Capacitors; Stock: 3926; Voltage Rating (AC): 6.3V; Lead Free: 5697LeadFree; Halogen Free: 5694HalogenFree; ComponentLink1URL: https://datasheet.ciiva.com/11786/0900766b80ce67ed-11786427.pdf?src-supplier=Rs; ComponentLink1Description: https://datasheet.ciiva.com/11786/0900766b80ce67ed-11786427.pdf?src-supplier=Rs; ComponentLink2URL: https://datasheet.ciiva.com/5789/70765-5789819.pdf?src-supplier=Farnell; ComponentLink2Description: https://datasheet.ciiva.com/5789/70765-5789819.pdf?src-supplier=Farnell; ComponentLink3URL: https://datasheet.ciiva.com/180/mlccorderingcode-180582.pdf?src-supplier=Digikey; ComponentLink3Description: https://datasheet.ciiva.com/180/mlccorderingcode-180582.pdf?src-supplier=Digikey; ComponentLink4URL: https://datasheet.ciiva.com/180/mlccorderingcode-180583.pdf?src-supplier=Digikey; ComponentLink4Description: https://datasheet.ciiva.com/180/mlccorderingcode-180583.pdf?src-supplier=Digikey; ComponentLink5URL: https://datasheet.ciiva.com/180/mlccorderingcode-180584.pdf?src-supplier=Digikey; ComponentLink5Description: https://datasheet.ciiva.com/180/mlccorderingcode-180584.pdf?src-supplier=Digikey; ComponentLink6URL: https://datasheet.ciiva.com/16743/upy-gphc-y5v-6-3v-to-50v-5-revised-16743035.pdf?src-supplier=Future+Electronics; ComponentLink6Description: https://datasheet.ciiva.com/16743/upy-gphc-y5v-6-3v-to-50v-5-revised-16743035.pdf?src-supplier=Future+Electronics; Supplier 1: Digikey; Supplier Part Number 1: 311-1453-1-ND
footprint C0603 (Chip Capacitor, 2-Leads, Body 1.75x0.95mm)
pins: 1, 2

## CAP0603-6.8nF-50V
designator C?, comment 6.8nF
VJ0603Y682KXAAP Vishay; Dielectric: X7R; Dielectric Material: Ceramic; Tolerance: 10%; Voltage Rating (DC): 50V; Supplier 1: DigiKey; Supplier Part Number 1: VJ0603Y682KXAAP-ND; Supplier: DigiKey; Supplier Part Number: VJ0603Y682KXAAP-ND; Manufacturer: Vishay; Manufacturer Part Number: VJ0603Y682KXAAP; RoHS: Compliant; Category: Ceramic Capacitors; Pricing: 10000=0,02646 (USD); Value: 6.8nF; Case/Package: 0603; China RoHS: Compliant; Depth: 800µm; Height: 970µm; Length: 1.6mm; Lifecycle Status: Production; Max Operating Temperature: 150°C; Min Operating Temperature: -55°C; Mounting Technology: Surface Mount; Number of Terminals: 2; REACH SVHC: Yes; Width: 800µm; ComponentLink1URL: https://datasheet.octopart.com:443/VJ0603Y682KXAAP-Vishay-datasheet-176384747.pdf?src-supplier=IHS; ComponentLink1Description: https://datasheet.octopart.com:443/VJ0603Y682KXAAP-Vishay-datasheet-176384747.pdf?src-supplier=IHS; ComponentLink2URL: https://datasheet.octopart.com/VJ0603Y682KXAAP-Vishay-datasheet-14932079.pdf; ComponentLink2Description: https://datasheet.octopart.com/VJ0603Y682KXAAP-Vishay-datasheet-14932079.pdf; ComponentLink3URL: http://sigma.octopart.com:80/rohs_statement/Vishay-company-15.pdf?src-supplier=Compliance+Statements; ComponentLink3Description: http://sigma.octopart.com:80/rohs_statement/Vishay-company-15.pdf?src-supplier=Compliance+Statements; Capacitance: 6.8nF
footprint C0603 (Chip Capacitor, 2-Leads, Body 1.75x0.95mm)
pins: 1, 2

## CAP0603-10nF-50V
designator C?
CAP CER 10000PF 50V X7R 0603; Manufacturer: Yageo; Manufacturer Part Number: CC0603KRX7R9BB103; Material: Ceramic; Tolerance: 10%; Value: 10nF; Insulation Resistance: 100GR; Supplier: Digikey; Supplier Part Number: 311-1085-1-ND; RoHS: Yes; Category: Ceramic Capacitors; Stock: 1758748; Pricing: 1=0,1, 10=0,029, 100=0,0164, 1000=0,01016, 4000=0,00798, 8000=0,00718, 12000=0,00678, 20000=0,00633, 28000=0,00607, 40000=0,00582, 100000=0,00529, 200000=0,00496, 400000=0,0047 (USD); Mounting Technology: Surface Mount; Case/Package: 0603; Pins: 2; Case Code (Metric): 1608; Case Code (Imperial): 0603; Min Operating Temperature: -55°C; Max Operating Temperature: 125°C; Packaging: Tape and Reel; Voltage Rating: 50V; Dielectric: X7R; Voltage Rating (DC): 50V; Package Quantity: 1; Series: CC; Termination: SMD/SMT; Voltage: 50V; Length: 1.6mm; Width: 0.031inch; Height: 0.8mm; Depth: 0.8mm; Thickness: 0.035inch; Radiation Hardening: No; RoHS Compliant: Yes; Lead Free: 5697LeadFree; Reach SVHC Compliant: Unknown; Halogen Free: 5694HalogenFree; ComponentLink1URL: https://datasheet.ciiva.com/11788/0900766b8079c870-11788374.pdf?src-supplier=Rs; ComponentLink1Description: https://datasheet.ciiva.com/11788/0900766b8079c870-11788374.pdf?src-supplier=Rs; ComponentLink2URL: https://datasheet.ciiva.com/26862/getdatasheetpartid-403582-26862846.pdf?src-supplier=Verical; ComponentLink2Description: https://datasheet.ciiva.com/26862/getdatasheetpartid-403582-26862846.pdf?src-supplier=Verical; ComponentLink3URL: https://datasheet.ciiva.com/8033/70765-8033817.pdf?src-supplier=Element14; ComponentLink3Description: https://datasheet.ciiva.com/8033/70765-8033817.pdf?src-supplier=Element14; ComponentLink4URL: https://datasheet.ciiva.com/28450/1489800-28450619.pdf?src-supplier=Element14; ComponentLink4Description: https://datasheet.ciiva.com/28450/1489800-28450619.pdf?src-supplier=Element14; ComponentLink5URL: https://datasheet.ciiva.com/176/mlccorderingcode-176550.pdf?src-supplier=Digikey; ComponentLink5Description: https://datasheet.ciiva.com/176/mlccorderingcode-176550.pdf?src-supplier=Digikey; ComponentLink6URL: https://datasheet.ciiva.com/176/mlccorderingcode-176552.pdf?src-supplier=Digikey; ComponentLink6Description: https://datasheet.ciiva.com/176/mlccorderingcode-176552.pdf?src-supplier=Digikey; ComponentLink7URL: https://datasheet.ciiva.com/8033/1734573-8033816.pdf?src-supplier=Element14; ComponentLink7Description: https://datasheet.ciiva.com/8033/1734573-8033816.pdf?src-supplier=Element14; ComponentLink8URL: https://datasheet.ciiva.com/8033/1734573-8033861.pdf?src-supplier=Element14; ComponentLink8Description: https://datasheet.ciiva.com/8033/1734573-8033861.pdf?src-supplier=Element14; ComponentLink9URL: https://datasheet.ciiva.com/176/mlccorderingcode-176551.pdf?src-supplier=Digikey; ComponentLink9Description: https://datasheet.ciiva.com/176/mlccorderingcode-176551.pdf?src-supplier=Digikey; ComponentLink10URL: https://datasheet.ciiva.com/13389/upy-gphc-x7r-6-3v-to-50v-8-13389991.pdf?src-supplier=Mouser; ComponentLink10Description: https://datasheet.ciiva.com/13389/upy-gphc-x7r-6-3v-to-50v-8-13389991.pdf?src-supplier=Mouser; Supplier 1: Digikey; Supplier Part Number 1: 311-1085-1-ND; Capacitance: 10nF
footprint C0603 (Chip Capacitor, 2-Leads, Body 1.75x0.95mm)
pins: 1, 2

## CAP0603-10uF-10V
designator C?
CAP CER 10UF 10V X7R 0603; Manufacturer: Murata; Manufacturer Part Number: GRM188Z71A106KA73D; Material: 4241ConductorMaterial; Tolerance: 10%; Capacitance: 10uF; Supplier: Digikey; Supplier Part Number: 490-GRM188Z71A106KA73DDKR-ND; RoHS: Yes; Category: Ceramic Capacitors; Pricing: 1=0,28, 10=0,166, 100=0,1065, 1000=0,07585 (USD); Case/Package: 345Case; Min Operating Temperature: -55°C; Max Operating Temperature: 125°C; Value: 10uF; Voltage Rating: 10V; Length: 1.6mm; Width: 800um; Height: 1mm; Thickness: 800um; RoHS Compliant: Yes; ComponentLink1URL: https://datasheet.octopart.com/GRM188Z71A106KA73D-Murata-datasheet-165579666.pdf?src-supplier=TME; ComponentLink1Description: https://datasheet.octopart.com/GRM188Z71A106KA73D-Murata-datasheet-165579666.pdf?src-supplier=TME; Supplier 1: Digikey; Supplier Part Number 1: 490-GRM188Z71A106KA73DDKR-ND
footprint C0603 (Footprint not found)
pins: 1, 2